# EAGLE library part 23LCV1024 (library Webmaster442)
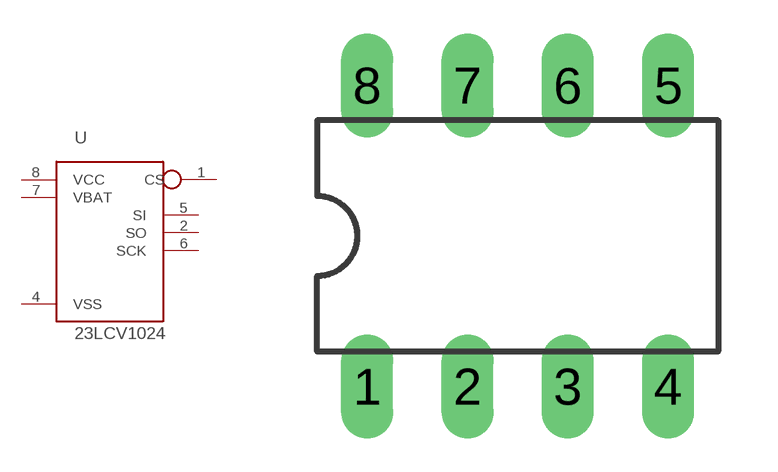
[diagram p14: symbol with the pads of DIL08; footprint DIL08]

Designator prefix -

## 23LCV1024  [DIL08]
1  CS
2  SO
4  VSS
5  SI
6  SCK
7  VBAT
8  VCC

## Footprint DIL08 (pad centres in mm)
Dual In Line Package
drill 0.813 long: 1 -3.81,-3.81; 2 -1.27,-3.81; 3 1.27,-3.81; 4 3.81,-3.81; 5 3.81,3.81; 6 1.27,3.81; 7 -1.27,3.81; 8 -3.81,3.81